# Altium footprint library PcbLib1.PcbLib: 4 footprints
Each footprint in its own frame and in the unit in brackets; x right, y up, seen from the top. Pads: shape width x height; smd on the part's side, far side on the other; paste and mask are expansions set on the pad; w line width, h text height; cw(c..) or ccw(c..) is an arc to the next point about the centre after c.
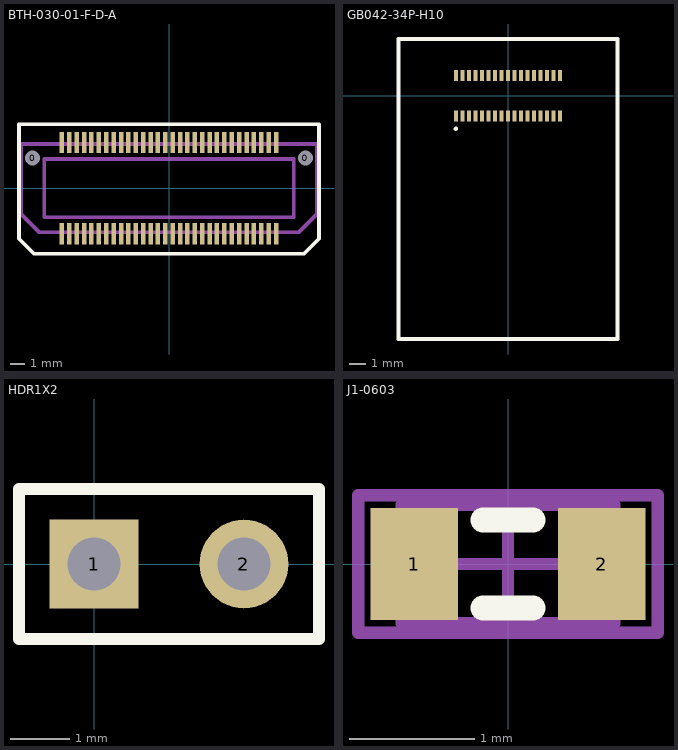
[diagram p0: the footprints below, top view; thin cyan lines are the x and y axes]

## BTH-030-01-F-D-A [mm]
pads (62):
  round 0.8 hole 1.016 unplated mask+0.358: 0(-9.238,2.032) 0(9.238,2.032)
  rect 0.305x1.448 smd: 1(-7.25,3.086) 2(-7.25,-3.086) 3(-6.75,3.086) 4(-6.75,-3.086) 5(-6.25,3.086) 6(-6.25,-3.086) 7(-5.75,3.086) 8(-5.75,-3.086) 9(-5.25,3.086) 10(-5.25,-3.086) 11(-4.75,3.086) 12(-4.75,-3.086) 13(-4.25,3.086) 14(-4.25,-3.086) 15(-3.75,3.086) 16(-3.75,-3.086) 17(-3.25,3.086) 18(-3.25,-3.086) 19(-2.75,3.086) 20(-2.75,-3.086) 21(-2.25,3.086) 22(-2.25,-3.086) 23(-1.75,3.086) 24(-1.75,-3.086) 25(-1.25,3.086) 26(-1.25,-3.086) 27(-0.75,3.086) 28(-0.75,-3.086) 29(-0.25,3.086) 30(-0.25,-3.086) 31(0.25,3.086) 32(0.25,-3.086) 33(0.75,3.086) 34(0.75,-3.086) 35(1.25,3.086) 36(1.25,-3.086) 37(1.75,3.086) 38(1.75,-3.086) 39(2.25,3.086) 40(2.25,-3.086) 41(2.75,3.086) 42(2.75,-3.086) 43(3.25,3.086) 44(3.25,-3.086) 45(3.75,3.086) 46(3.75,-3.086) 47(4.25,3.086) 48(4.25,-3.086) 49(4.75,3.086) 50(4.75,-3.086) 51(5.25,3.086) 52(5.25,-3.086) 53(5.75,3.086) 54(5.75,-3.086) 55(6.25,3.086) 56(6.25,-3.086) 57(6.75,3.086) 58(6.75,-3.086) 59(7.25,3.086) 60(7.25,-3.086)
Top Overlay:
  lines w0.254: -10.16,-3.429 -9.144,-4.445 9.144,-4.445 10.16,-3.429 10.16,4.318 -10.16,4.318 -10.16,-3.429
Mechanical 13:
  lines w0.254: -10,-1.785 -8.8,-2.985 8.8,-2.985 10,-1.785 10,2.984 -10,2.984 -10,-1.785 ; -8.444,-1.969 8.444,-1.969 8.444,1.968 -8.444,1.968 -8.444,-1.969
  text ".Designator" at 0,0 h1
3D body: height 4.27, standoff -0.75, extent -10.001,-3.556 10.001,3.556

## GB042-34P-H10 [mm]
pads (34):
  rect 0.23x0.7 smd: 1(-3.2,-1.25) 2(-2.8,-1.25) 3(-2.4,-1.25) 4(-2,-1.25) 5(-1.6,-1.25) 6(-1.2,-1.25) 7(-0.8,-1.25) 8(-0.4,-1.25) 9(0,-1.25) 10(0.4,-1.25) 11(0.8,-1.25) 12(1.2,-1.25) 13(1.6,-1.25) 14(2,-1.25) 15(2.4,-1.25) 16(2.8,-1.25) 17(3.2,-1.25) 18(3.2,1.25) 19(2.8,1.25) 20(2.4,1.25) 21(2,1.25) 22(1.6,1.25) 23(1.2,1.25) 24(0.8,1.25) 25(0.4,1.25) 26(0,1.25) 27(-0.4,1.25) 28(-0.8,1.25) 29(-1.2,1.25) 30(-1.6,1.25) 31(-2,1.25) 32(-2.4,1.25) 33(-2.8,1.25) 34(-3.2,1.25)
Top Overlay:
  lines w0.254: -3.225,-2.05 -3.2,-2.025 ; -6.75,-15 6.75,-15 6.75,3.5 -6.75,3.5 -6.75,-15

## HDR1X2 [mm] "Connector; Header; 2 Position"
pads (2):
  rect 1.5x1.5 hole 0.9: 1(0,0)
  round 1.5 hole 0.9: 2(2.54,0)
Top Overlay:
  lines w0.2: -1.27,-1.27 3.81,-1.27 3.81,1.27 -1.27,1.27 -1.27,-1.27

## J1-0603 [mm] "Chip Resistor, Body 1.6x0.8mm, IPC High Density"
height 0.9
pads (2):
  rect 0.7x0.9 smd: 1(-0.75,0) 2(0.75,0)
Top Overlay:
  lines w0.2: -0.2,-0.35 0.2,-0.35 ; -0.2,0.35 0.2,0.35
Mechanical 13:
  lines w0.1: -0.85,-0.475 0.85,-0.475 0.85,0.475 -0.85,0.475 -0.85,-0.475
Mechanical 15:
  lines w0.1: -0.475,0 0.475,0 ; 0,-0.475 0,0.475 ; -1.2,-0.55 1.2,-0.55 1.2,0.55 -1.2,0.55 -1.2,-0.55
3D body: height 0.9, standoff 0, extent -0.85,-0.475 0.85,0.475